# Altium footprint library Spirit_Level_Project.PcbLib: 33 footprints (part 1 of 3)
Each footprint in its own frame and in the unit in brackets; x right, y up, seen from the top. Pads: shape width x height; smd on the part's side, far side on the other; paste and mask are expansions set on the pad; w line width, h text height; cw(c..) or ccw(c..) is an arc to the next point about the centre after c.
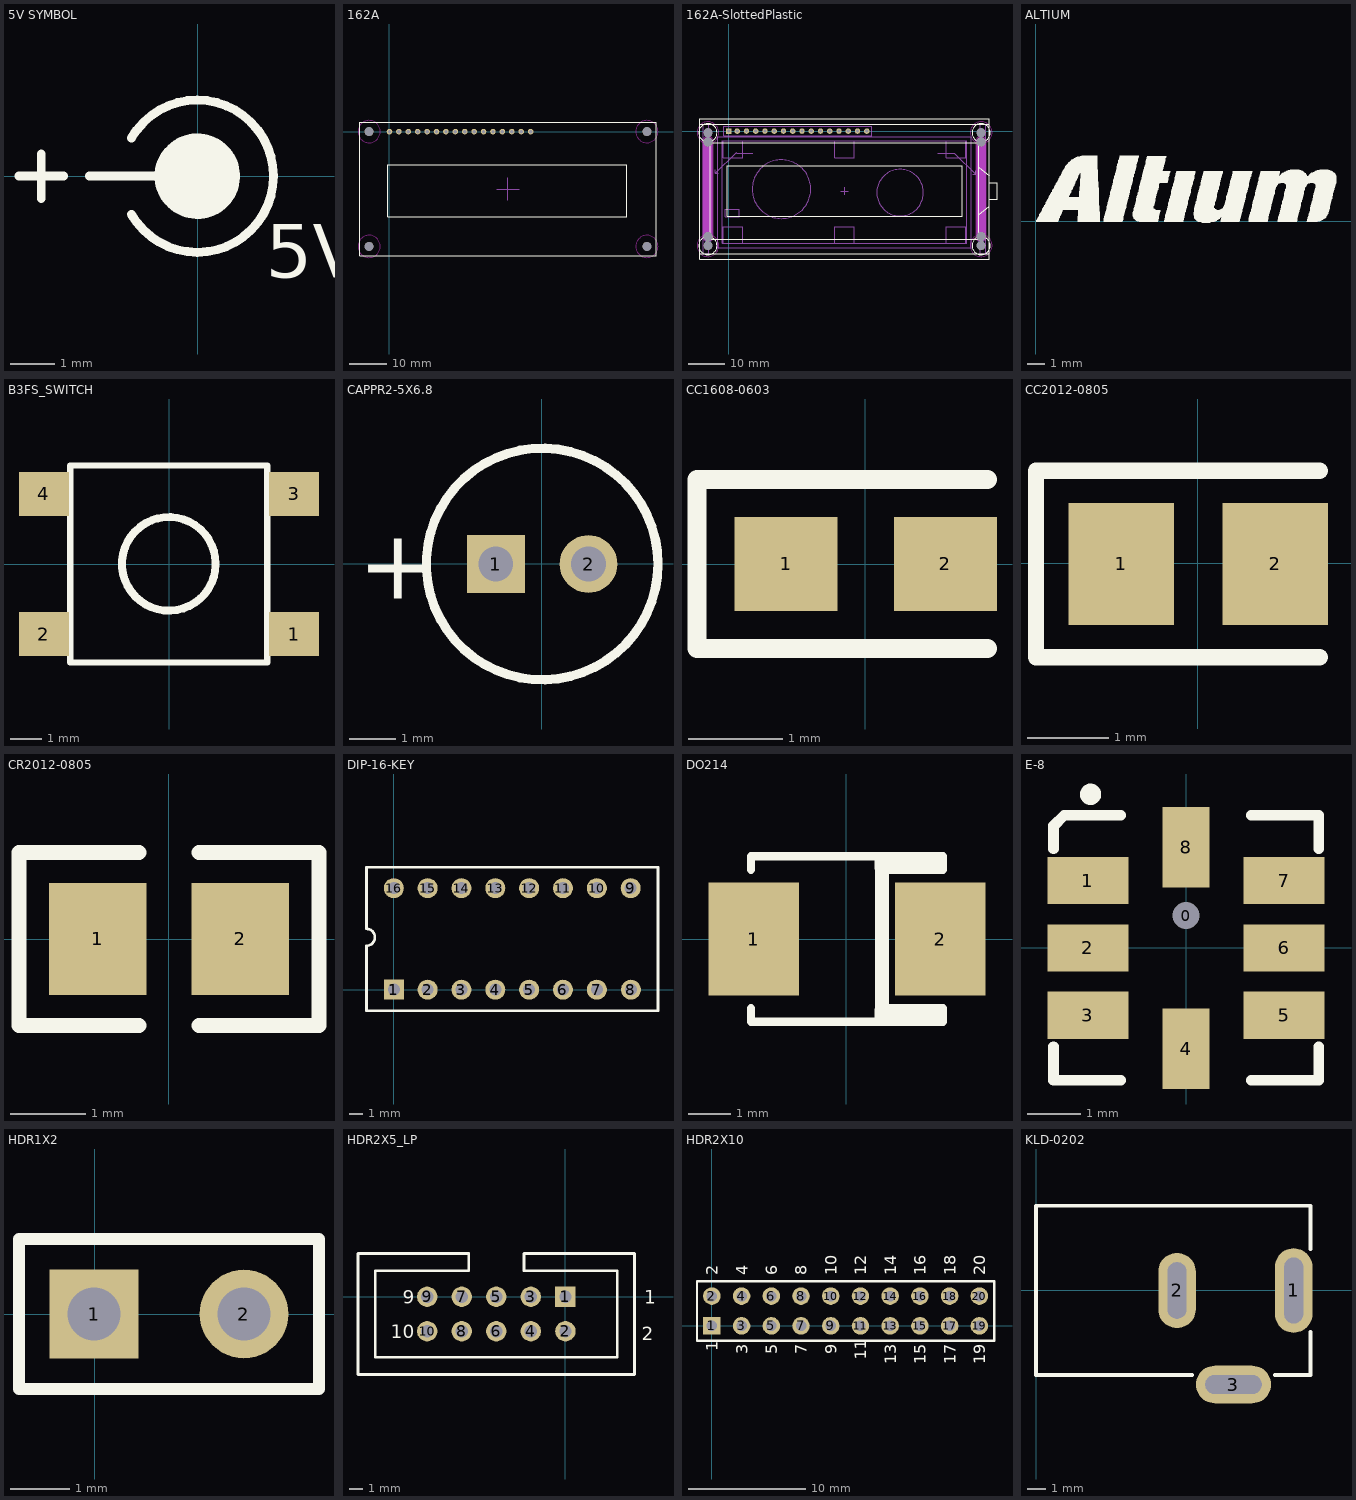
[diagram p0: the footprints below, top view; thin cyan lines are the x and y axes]

## 5V SYMBOL [mm]
Top Overlay:
  circle w1: c-0.007,-0.002 r0.458
  lines w0.2: -4.007,-0.002 -3.007,-0.002 ; -3.507,-0.502 -3.507,0.498 ; -2.423,-0.002 -0.007,-0.002 ; -1.486,-0.856 ccw(c-0.007,-0.002) -1.486,0.853
  text "5V DC" at 1.524,-2.286 h1.2

## 162A [mm]
pads (20):
  round 1.5 hole 0.9: 1(0,0) 2(2.54,0) 3(5.08,0) 4(7.62,0) 5(10.16,0) 6(12.7,0) 7(15.24,0) 8(17.78,0) 9(20.32,0) 10(22.86,0) 11(25.4,0) 12(27.94,0) 13(30.48,0) 14(33.02,0) 15(35.56,0) 16(38.1,0)
  round 2.3 hole 2.5 unplated: M1(-5.5,0) M2(69.5,0) M3(-5.5,-31) M4(69.5,-31)
Top Overlay:
  lines w0.2: -8,-33.5 -8,2.5 72,2.5 72,-33.5 -8,-33.5 ; -0.5,-23 -0.5,-9 64,-9 64,-23 -0.5,-23
Keep-Out Layer:
  circle w0.2: c-5.5,0 r3
  circle w0.2: c-5.5,-31 r3
  circle w0.2: c69.5,-31 r3
  circle w0.2: c69.5,0 r3
Mechanical 15:
  lines w0.254: 29,-15.5 35,-15.5 ; 32,-18.5 32,-12.5
3D body: height 8.89, standoff 4.83, extent -0.5,-23 64,-9
3D body: height 4.06, standoff 0, extent -7.752,-2.252 -3.248,2.252
3D body: height 4.06, standoff 0, extent -7.752,-33.252 -3.248,-28.748
3D body: height 4.06, standoff 0, extent 67.248,-33.252 71.752,-28.748
3D body: height 4.06, standoff 0, extent 67.248,-2.252 71.752,2.252
3D body: height 10.16, standoff 4.83, extent -2.5,-27.5 33,-3
3D body: height 10.16, standoff 4.83, extent 30.5,-27.5 66,-3
3D body: height 4.83, standoff 4.06, extent -8.012,-33.5 72,2.5

## 162A-SlottedPlastic [mm] "LCD and Mounting Moulding"
height 18.58
pads (25):
  rect 1.5x1.5 / inner rect 1.5x1.5 / far side rect 1.7x1.7 hole 0.9: 1(0,0)
  round 1.5 / inner round 1.5 / far side round 1.7 hole 0.9: 2(2.29,0) 3(4.83,0) 4(7.37,0) 5(9.91,0) 6(12.45,0) 7(14.99,0) 8(17.53,0) 9(20.07,0) 10(22.61,0) 11(25.15,0) 12(27.69,0) 13(30.23,0) 14(32.77,0) 15(35.31,0) 16(37.85,0)
  round 2.3 hole 2.5 unplated: M1(-5.75,-0.45) M2(69.25,-0.45) M2(69.25,-0.45) M3(-5.75,-31.45) M4(69.25,-31.45)
  round 2.4 hole 2.5 unplated: S1_1(-5.75,-3) S1_2(-5.75,-28.9) S2_1(69.25,-3) S2_2(69.25,-28.9)
Top Overlay:
  circle w0.2: c-5.75,-0.45 r2.5
  circle w0.2: c69.25,-0.45 r2.5
  circle w0.2: c69.25,-31.45 r2.5
  circle w0.2: c-5.75,-31.45 r2.5
  lines w0.2: 68.55,-22.95 71.5,-20.65 ; 68.55,-9.95 71.5,-12.25 ; 71.5,-18.75 73.6,-18.75 73.6,-14.15 71.5,-14.15 ; -8,-33.65 -8,1.85 ; -8,-33.65 71.5,-33.65 ; -8,-33.65 -8,-35.2 71.5,-35.2 71.5,-33.65 ; -8,1.85 71.5,1.85 ; -8,1.85 -8,3.4 71.5,3.4 71.5,1.85 ; 71.5,-33.65 71.5,1.85 ; -5.05,-29.75 68.55,-29.75 68.55,-3.15 -5.05,-3.15 -5.05,-29.75 ; -0.5,-23.35 -0.5,-9.55 64,-9.55 64,-23.35 -0.5,-23.35
Bottom Overlay:
  circle w0.2: c-5.75,-0.45 r2.5
  circle w0.2: c69.25,-0.45 r2.5
  circle w0.2: c69.25,-31.45 r2.5
  circle w0.2: c-5.75,-31.45 r2.5
Keep-Out Layer:
  circle w0.2: c-5.75,-0.45 r3
  circle w0.2: c-5.75,-31.45 r3
  circle w0.2: c69.25,-31.45 r3
  circle w0.2: c69.25,-0.45 r3
  lines w3: -5.75,-29.15 -5.75,-2.75 ; 69.25,-29.15 69.25,-2.75
Mechanical 1:
  lines w0.2: 30.75,-16.45 32.75,-16.45 ; 31.75,-17.45 31.75,-15.45
Mechanical 3:
  lines w0.2: -3.7,-10.65 -3.7,-11.55 ; -2.9,-11.55 -3.7,-11.55 ; 2.1,-6.05 6.6,-6.05 ; 2.1,-5.75 -3.7,-11.55 ; 57.3,-6.05 61.9,-6.05 67.7,-11.85 ; 66.9,-11.85 67.7,-11.85 ; 67.7,-10.95 67.7,-11.85
  lines w2.5: -5.75,-28.9 -5.75,-3 ; 69.25,-28.9 69.25,-3
  text "Two non-plated slots 2.5mm wide from hole to hole" at 8.3,-6.35 h1
Mechanical 4:
  circle w0.1: c47,-16.9 r6.4
  circle w0.1: c14.45,-15.95 r8.05
  lines w0.1: -7,-33.65 -5.5,-33.65 -5.5,1.85 -7,1.85 -7,-33.65 ; -3,-32 -3,-1.5 66.5,-1.5 66.5,-32 -3,-32 ; -1.8,-30.8 65.3,-30.8 65.3,-2.7 -1.8,-2.7 -1.8,-30.8 ; -1.55,-30.8 -1.55,-26.2 3.85,-26.2 3.85,-30.8 -1.55,-30.8 ; -1.55,-7.3 -1.55,-2.7 3.85,-2.7 3.85,-7.3 -1.55,-7.3 ; -1.4,-1.3 39.2,-1.3 39.2,1.3 -1.4,1.3 -1.4,-1.3 ; -1,-23.5 2.9,-23.5 2.9,-21.4 -1,-21.4 -1,-23.5 ; 29.05,-30.8 29.05,-26.2 34.45,-26.2 34.45,-30.8 29.05,-30.8 ; 29.05,-7.3 34.45,-7.3 34.45,-2.7 29.05,-2.7 29.05,-7.3 ; 59.65,-30.8 59.65,-26.2 65.05,-26.2 65.05,-30.8 59.65,-30.8 ; 59.65,-7.3 59.65,-2.7 65.05,-2.7 65.05,-7.3 59.65,-7.3 ; 69,-33.65 69,1.85 70.5,1.85 70.5,-33.65 69,-33.65
3D body: height 18.9, standoff 10.6, extent -5.05,-29.75 68.55,-3.15
3D body: height 13, standoff 9, extent -8,1.85 1.65,3.4
3D body: height 13, standoff 9, extent -8,-35.2 1.65,-33.65
3D body: height 13, standoff 9, extent 62.75,-35.2 72.4,-33.65
3D body: height 13, standoff 9, extent 61.85,1.85 71.5,3.4
3D body: height 10.7, standoff 9, extent 1.65,1.85 61.85,3.4
3D body: height 10.7, standoff 9, extent 1.65,-35.2 61.85,-33.65
3D body: height 18.95, standoff 18.9, extent -5.05,-29.75 31.75,-3.15
3D body: height 18.95, standoff 18.9, extent 31.75,-29.75 68.55,-3.15
3D body: height 13.3, standoff 7.3, extent 71.501,-18.749 73.599,-14.151
3D body: height 10.6, standoff 9, extent -8,-33.65 71.5,1.85
3D body: height 14.1, standoff 10.6, extent 68.55,-22.95 71.5,-9.95
3D body: height 9, standoff 6.7, extent -3,-35.2 66.5,-32
3D body: height 9, standoff 0, extent 69,-33.65 70.5,1.85
3D body: height 9, standoff 0, extent -7,-33.65 -5.5,1.85
3D body: height 9, standoff 0, extent -1.4,-1.3 39.2,1.3
3D body: height 9, standoff 8.3, extent -1,-23.5 2.9,-21.4
3D body: height 9, standoff 5.3, extent 65.3,-30.8 66.5,-2.7
3D body: height 9, standoff 5.3, extent -3,-30.8 -1.8,-2.7
3D body: height 9, standoff 5.3, extent -3,-32 66.5,-30.75
3D body: height 9, standoff 5.3, extent -3,-2.7 66.5,-1.5
3D body: height 9, standoff 7, extent 29.05,-30.8 34.45,-26.2
3D body: height 9, standoff 7, extent -1.55,-30.8 3.85,-26.2
3D body: height 9, standoff 7, extent -1.55,-7.3 3.85,-2.7
3D body: height 9, standoff 7, extent 59.65,-7.3 65.05,-2.7
3D body: height 9, standoff 7, extent 59.65,-30.8 65.05,-26.2
3D body: height 9, standoff 8, extent 6.399,-24.001 22.501,-7.899
3D body: height 9, standoff 6.7, extent -8,-35.2 -3,3.4
3D body: height 9, standoff 6.7, extent -3,-1.5 66.5,3.4
3D body: height 9, standoff 6.7, extent -1.4,-1.5 39.2,-1.3
3D body: height 9, standoff 6.7, extent 66.5,-35.2 71.5,3.4
3D body: height 9, standoff 7, extent 29.05,-7.3 34.45,-2.7
3D body: height 9, standoff 8, extent 40.599,-23.301 53.401,-10.499

## ALTIUM [mm]
Top Overlay:
  drawing of 1207 lines, arcs and shapes, not listed

## B3FS_SWITCH [mm]
pads (4):
  rect 1.6x1.4 smd: 1(3.998,-2.244) 2(-4.012,-2.244) 3(3.998,2.246) 4(-4.012,2.246)
Top Overlay:
  circle w0.254: c-0.012,0.006 r1.5
  lines w0.2: -3.172,-3.154 3.138,-3.154 3.138,3.156 -3.172,3.156 -3.172,-3.154
3D body: height 2.5, standoff 0, extent -3.171,-3.154 3.138,3.155
3D body: height 0.76, standoff 0, extent -4.572,-2.667 -2.794,-1.778
3D body: height 0.76, standoff 0, extent 2.794,1.778 4.572,2.667
3D body: height 0.76, standoff 0, extent 2.794,-2.667 4.572,-1.778
3D body: height 0.76, standoff 0, extent -4.572,1.778 -2.794,2.667
3D body: height 4.57, standoff 0, extent -1.511,-1.494 1.488,1.505

## CAPPR2-5X6.8 [mm]
pads (2):
  rect 1.25x1.25 hole 0.75: 1(-0.994,-0.009)
  round 1.25 hole 0.75: 2(1.006,-0.009)
Top Overlay:
  circle w0.2: c0.006,-0.009 r2.5
  text "+" at -3.969,-0.759 h1.5
3D body: height 0, standoff 10.16, extent -2.493,-2.508 2.506,2.49

## CC1608-0603 [mm]
pads (2):
  rect 1.1x1 smd: 1(-0.843,0.001) 2(0.857,0.001)
Top Overlay:
  lines w0.2: 1.307,-0.899 -1.793,-0.899 -1.793,0.901 1.307,0.901
3D body: height 0.76, standoff 0, extent -1.46,-0.572 1.46,0.572

## CC2012-0805 [mm]
pads (2):
  rect 1.3x1.5 smd: 1(-0.945,-0.007) 2(0.955,-0.007)
Top Overlay:
  lines w0.2: 1.505,-1.157 -1.995,-1.157 -1.995,1.143 1.505,1.143
3D body: height 0.76, standoff 0, extent -1.524,-0.699 1.524,0.699

## CR2012-0805 [mm]
pads (2):
  rect 1.3x1.5 smd: 1(-0.946,0) 2(0.954,0)
Top Overlay:
  lines w0.2: -0.396,-1.15 -1.996,-1.15 -1.996,1.15 -0.396,1.15 ; 0.404,-1.15 2.004,-1.15 2.004,1.15 0.404,1.15
3D body: height 0.76, standoff 0, extent -1.524,-0.699 1.524,0.699

## DIP-16-KEY [mm]
pads (16):
  rect 1.5x1.5 hole 0.9: 1(-0.011,0.001)
  round 1.5 hole 0.9: 2(2.529,0.001) 3(5.069,0.001) 4(7.609,0.001) 5(10.149,0.001) 6(12.689,0.001) 7(15.229,0.001) 8(17.789,0.001) 9(17.769,7.621) 10(15.229,7.621) 11(12.689,7.621) 12(10.149,7.621) 13(7.609,7.621) 14(5.069,7.621) 15(2.529,7.621) 16(-0.011,7.621)
Top Overlay:
  lines w0.2: -2.061,4.571 cw(c-2.061,3.936) -2.061,3.301 -2.061,-1.589 19.819,-1.589 19.819,9.201 -2.061,9.201 -2.061,4.601
3D body: height 6.35, standoff 0, extent -2.032,-1.524 19.812,9.144
3D body: height 7.11, standoff 0, extent -0.508,4.064 0.508,6.096
3D body: height 6.48, standoff 0, extent -0.508,1.524 0.508,4.064
3D body: height 6.48, standoff 0, extent 4.572,1.524 5.588,4.064
3D body: height 7.11, standoff 0, extent 4.572,4.064 5.588,6.096
3D body: height 6.48, standoff 0, extent 7.112,1.524 8.128,4.064
3D body: height 7.11, standoff 0, extent 7.112,4.064 8.128,6.096
3D body: height 6.48, standoff 0, extent 14.732,1.524 15.748,4.064
3D body: height 7.11, standoff 0, extent 14.732,4.064 15.748,6.096
3D body: height 6.48, standoff 0, extent 2.032,3.556 3.048,6.096
3D body: height 7.11, standoff 0, extent 2.032,1.524 3.048,3.556
3D body: height 6.48, standoff 0, extent 9.652,3.556 10.668,6.096
3D body: height 7.11, standoff 0, extent 9.652,1.524 10.668,3.556
3D body: height 6.48, standoff 0, extent 12.192,3.556 13.208,6.096
3D body: height 7.11, standoff 0, extent 12.192,1.524 13.208,3.556
3D body: height 6.48, standoff 0, extent 17.272,3.556 18.288,6.096
3D body: height 7.11, standoff 0, extent 17.272,1.524 18.288,3.556

## DO214 [mm]
pads (2):
  rect 2.159x2.7 smd: 1(-2.21,0.005) 2(2.235,0.005)
Top Overlay:
  rectangle: 0.677,-1.648 1.007,1.654
  rectangle: 0.673,-1.962 2.298,-1.645
  rectangle: 0.673,1.657 2.298,1.974
  lines w0.2: -2.274,-1.646 -2.274,-1.964 2.298,-1.964 2.298,-1.646 0.774,-1.646 ; -2.274,1.656 -2.274,1.973 2.298,1.973 2.298,1.656 0.774,1.656
3D body: height 1.27, standoff 0, extent -3.175,-1.27 3.175,1.27

## E-8 [mil]
pads (9):
  round 15 hole 20 unplated: 0(-0.02,23.98)
  rect 60x35 smd: 1(-72.85,49.98) 2(-72.85,-0.02) 3(-72.85,-50.02) 5(72.82,-50.02) 6(72.82,-0.02) 7(72.82,49.98)
  rect 35x60 smd: 4(-0.02,-74.82) 8(-0.02,74.79)
Top Overlay:
  circle w7.87: c-70.89,114.16 r3.94
  lines w7.87: -98.44,-73.44 -98.44,-98.44 -48.44,-98.44 ; -98.44,73.56 -98.44,90.69 ; -90.57,98.56 -48.44,98.56 ; 48.56,-98.44 98.56,-98.44 98.56,-73.44 ; 48.56,98.56 98.56,98.56 98.56,73.56
  lines w8: -98.44,90.69 -90.57,98.56
3D body: height 80, standoff 0, extent -95,-95 95,95

## HDR1X2 [mm]
pads (2):
  rect 1.5x1.5 hole 0.9: 1(-0.011,0.007)
  round 1.5 hole 0.9: 2(2.529,0.007)
Top Overlay:
  lines w0.2: -1.281,-1.263 -1.281,1.277 3.799,1.277 3.799,-1.263 -1.281,-1.263
3D body: height 10, standoff 0, extent 2.04,-0.5 3.04,0.5
3D body: height 10, standoff 0, extent -0.5,-0.5 0.5,0.5
3D body: height 2, standoff 0, extent -1.27,-1.27 3.81,1.27

## HDR2X5_LP [mm]
pads (10):
  rect 1.5x1.5 hole 0.9: 1(0.003,0.004)
  round 1.5 hole 0.9: 2(0.003,-2.536) 3(-2.537,0.004) 4(-2.537,-2.536) 5(-5.077,0.004) 6(-5.077,-2.536) 7(-7.617,0.004) 8(-7.617,-2.536) 9(-10.157,0.004) 10(-10.157,-2.536)
Top Overlay:
  lines w0.2: -7.109,1.909 -7.109,3.179 -15.237,3.179 -15.237,-5.711 5.083,-5.711 5.083,3.179 -3.045,3.179 -3.045,1.909 ; -7.1,1.909 -13.967,1.909 -13.967,-4.441 3.813,-4.441 3.813,1.91 -3.05,1.91
  text "2" at 5.603,-3.196 h1
  text "1" at 5.803,-0.496 h1
  text "9" at -11.935,-0.504 h1
  text "10" at -12.824,-3.044 h1
3D body: height 0, standoff 10, extent -15.237,-5.711 5.082,3.178
3D body: height 2, standoff 0, extent -15.24,-5.715 5.08,3.175
3D body: height 10, standoff 0, extent -0.5,-0.5 0.5,0.5
3D body: height 10, standoff 0, extent -3.04,-0.5 -2.04,0.5
3D body: height 10, standoff 0, extent -5.58,-0.5 -4.58,0.5
3D body: height 10, standoff 0, extent -8.12,-0.5 -7.12,0.5
3D body: height 10, standoff 0, extent -10.66,-0.5 -9.66,0.5
3D body: height 10, standoff 0, extent -10.66,-3.04 -9.66,-2.04
3D body: height 10, standoff 0, extent -8.12,-3.04 -7.12,-2.04
3D body: height 10, standoff 0, extent -5.58,-3.04 -4.58,-2.04
3D body: height 10, standoff 0, extent -3.04,-3.04 -2.04,-2.04
3D body: height 10, standoff 0, extent -0.5,-3.04 0.5,-2.04

## HDR2X10 [mm]
pads (20):
  rect 1.5x1.5 hole 0.9: 1(-0.011,0.007)
  round 1.5 hole 0.9: 2(-0.011,2.547) 3(2.529,0.007) 4(2.529,2.547) 5(5.069,0.007) 6(5.069,2.547) 7(7.609,0.007) 8(7.609,2.547) 9(10.149,0.007) 10(10.149,2.547) 11(12.689,0.007) 12(12.689,2.547) 13(15.229,0.007) 14(15.229,2.547) 15(17.769,0.007) 16(17.769,2.547) 17(20.309,0.007) 18(20.309,2.547) 19(22.849,0.007) 20(22.849,2.547)
Top Overlay:
  lines w0.2: -1.281,-1.263 24.119,-1.263 24.119,3.817 -1.281,3.817 -1.281,-1.263
  text "3" at 3.037,-2.406 h1
  text "4" at 3.037,4.325 h1
  text "7" at 8.117,-2.406 h1
  text "8" at 8.117,4.325 h1
  text "9" at 10.657,-2.406 h1
  text "10" at 10.657,4.325 h1
  text "13" at 15.737,-3.295 h1
  text "14" at 15.737,4.325 h1
  text "17" at 20.817,-3.295 h1
  text "18" at 20.817,4.325 h1
  text "5" at 5.577,-2.406 h1
  text "11" at 13.197,-2.914 h1
  text "15" at 18.277,-3.295 h1
  text "6" at 5.577,4.325 h1
  text "12" at 13.197,4.325 h1
  text "16" at 18.277,4.325 h1
  text "2" at 0.497,4.325 h1
  text "1" at 0.497,-2.152 h1
  text "19" at 23.357,-3.295 h1
  text "20" at 23.357,4.325 h1
3D body: height 10, standoff 0, extent -0.5,-0.5 0.5,0.5
3D body: height 10, standoff 0, extent 2.04,-0.5 3.04,0.5
3D body: height 10, standoff 0, extent 4.58,-0.5 5.58,0.5
3D body: height 10, standoff 0, extent 7.12,-0.5 8.12,0.5
3D body: height 10, standoff 0, extent 9.66,-0.5 10.66,0.5
3D body: height 10, standoff 0, extent 12.2,-0.5 13.2,0.5
3D body: height 10, standoff 0, extent 14.74,-0.5 15.74,0.5
3D body: height 10, standoff 0, extent 17.28,-0.5 18.28,0.5
3D body: height 10, standoff 0, extent 19.82,-0.5 20.82,0.5
3D body: height 10, standoff 0, extent 22.36,-0.5 23.36,0.5
3D body: height 10, standoff 0, extent 22.36,2.04 23.36,3.04
3D body: height 10, standoff 0, extent 19.82,2.04 20.82,3.04
3D body: height 10, standoff 0, extent 17.28,2.04 18.28,3.04
3D body: height 10, standoff 0, extent 14.74,2.04 15.74,3.04
3D body: height 10, standoff 0, extent 12.2,2.04 13.2,3.04
3D body: height 10, standoff 0, extent 9.66,2.04 10.66,3.04
3D body: height 10, standoff 0, extent 7.12,2.04 8.12,3.04
3D body: height 10, standoff 0, extent 4.58,2.04 5.58,3.04
3D body: height 10, standoff 0, extent 2.04,2.04 3.04,3.04
3D body: height 10, standoff 0, extent -0.5,2.04 0.5,3.04
3D body: height 2, standoff 0, extent -1.27,-1.27 24.13,3.81

## KLD-0202 [mm]
pads (3):
  oval 2x4.5 hole 1 slot 3.5 at 90 deg: 1(13.692,-0.001)
  oval 2x4 hole 1 slot 3 at 90 deg: 2(7.492,-0.001)
  oval 4x2 hole 1 slot 3 at 0 deg: 3(10.492,-5.001)
Top Overlay:
  lines w0.2: 8.292,-4.501 -0.008,-4.501 -0.008,4.499 14.592,4.499 14.592,2.199 ; 12.692,-4.501 14.592,-4.501 14.592,-2.201
3D body: height 7.62, standoff 0, extent 0,-4.445 14.605,4.445